# EAGLE library part HEADER_0.1"_10P_ (library Schuyler)
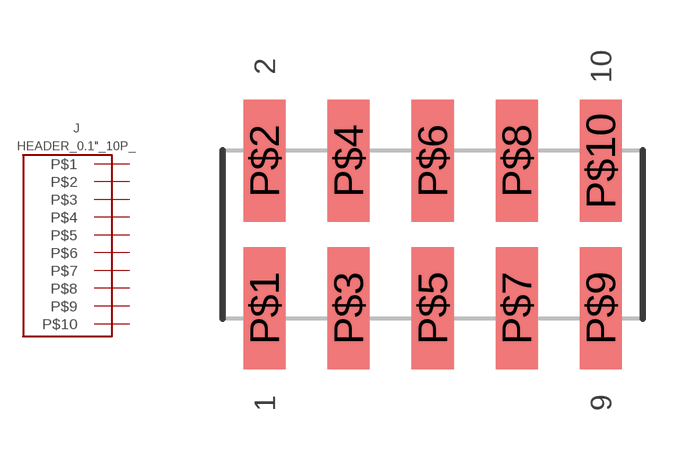
[diagram p21: symbol with the pads of HEADER_10P_2R_SMT; footprint HEADER_10P_2R_SMT]

Designator prefix J

## HEADER_0.1"_10P_2R_SMT (MANPARTNUMBER: 0015910100; MANUFACTURER: Molex Inc; PARTNUMBER: WM17459-ND; SUPPLIER: DIGIKEY; VERIFIED: FALSE)  [HEADER_10P_2R_SMT]
P$1  P$1
P$2  P$2
P$3  P$3
P$4  P$4
P$5  P$5
P$6  P$6
P$7  P$7
P$8  P$8
P$9  P$9
P$10  P$10

## Footprint HEADER_10P_2R_SMT (pad centres in mm)
Land pattern for SMT 0.100" header http://www.molex.com/pdm_docs/sd/015910100_sd.pdf
smd 1.27 x 3.683: P$1 -5.08,-2.223; P$2 -5.08,2.223; P$3 -2.54,-2.223; P$4 -2.54,2.223; P$5 0,-2.223; P$6 0,2.223; P$7 2.54,-2.223; P$8 2.54,2.223; P$9 5.08,-2.223; P$10 5.08,2.223